# Altium schematic symbol library HD3SS3412RUAT.SchLib: 1 symbol
Pins are listed as number, name and electrical type; pins without a type are passive.

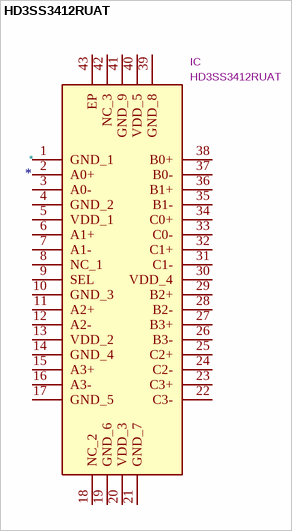
[diagram p0: symbol HD3SS3412RUAT]

## HD3SS3412RUAT
designator *  value HD3SS3412RUAT  Reference: IC
Manufacturer_Name: Texas Instruments; ki_description: TEXAS INSTRUMENTS - HD3SS3412RUAT - PCI & PCIe Device, PCI Express Switch, PCIe 3.0, 3V to 3.6V Supply, WQFN-42; Footprint: QFN50P350X900X80-43N-D; Datasheet: https://www.ti.com/lit/ds/symlink/hd3ss3412.pdf?ts=1621832919888&ref_url=https%253A%252F%252Fwww.ti.com%252Fstore%252Fti%252Fen%252Fp%252Fproduct%252F%253Fp%253DHD3SS3412RUAT; Height: 0.8; Manufacturer_Part_Number: HD3SS3412RUAT; Mouser Part Number: 595-HD3SS3412RUAT; Mouser Price/Stock: https://www.mouser.co.uk/ProductDetail/Texas-Instruments/HD3SS3412RUAT?qs=0gJBXdIUCJkDf1SjbdLJIQ%3D%3D; Arrow Part Number: HD3SS3412RUAT; Arrow Price/Stock: https://www.arrow.com/en/products/hd3ss3412ruat/texas-instruments?region=nac
pins: 1 GND_1, 2 A0+, 3 A0-, 4 GND_2, 5 VDD_1, 6 A1+, 7 A1-, 8 NC_1, 9 SEL, 10 GND_3, 11 A2+, 12 A2-, 13 VDD_2, 14 GND_4, 15 A3+, 16 A3-, 17 GND_5, 18 NC_2, 19 GND_6, 20 VDD_3, 21 GND_7, 22 C3-, 23 C3+, 24 C2-, 25 C2+, 26 B3-, 27 B3+, 28 B2-, 29 B2+, 30 VDD_4, 31 C1-, 32 C1+, 33 C0-, 34 C0+, 35 B1-, 36 B1+, 37 B0-, 38 B0+, 39 GND_8, 40 VDD_5, 41 GND_9, 42 NC_3, 43 EP